# EAGLE library part PINHD-2X5 (library SquantorConnectors)
PIN HEADER
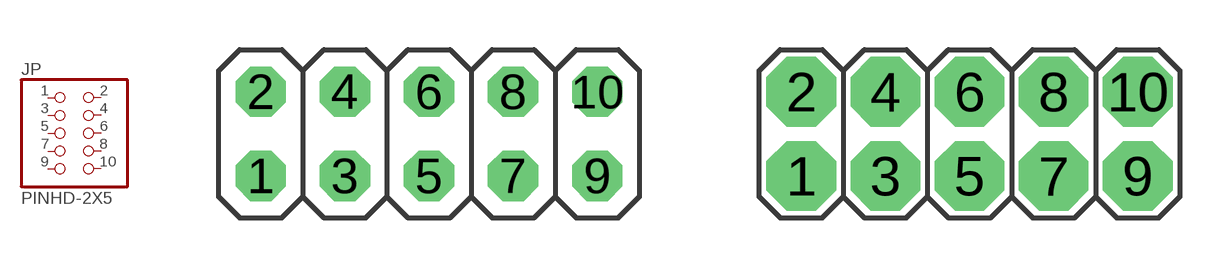
[diagram p27: symbol with the pads of 2X05; footprints 2X05, 2X05HOLE14]

Designator prefix JP

## PINHD-2X5TH_NORMAL  [2X05]
1  1  pas
2  2  pas
3  3  pas
4  4  pas
5  5  pas
6  6  pas
7  7  pas
8  8  pas
9  9  pas
10  10  pas

## PINHD-2X5TH_14MM  [2X05HOLE14]
Pads as for 2X05

## PINHD-2X5SMD_SIDE  [2X05SIDE]
Pads as for 2X05

## PINHD-2X5SMD_2.54_SMD  [2X05_2.54_SMD]
Pads as for 2X05

## PINHD-2X5TH_09MM  [2X05_TH_09MM]
Pads as for 2X05

## PINHD-2X5SMD_1.27_SMD  [2X05_1.27_SMD]
Pads as for 2X05

## Footprint 2X05 (pad centres in mm)
PIN HEADER
drill 1.016 octagon: 1 -5.08,-1.27; 2 -5.08,1.27; 3 -2.54,-1.27; 4 -2.54,1.27; 5 0,-1.27; 6 0,1.27; 7 2.54,-1.27; 8 2.54,1.27; 9 5.08,-1.27; 10 5.08,1.27

## Footprint 2X05HOLE14 (pad centres in mm)
Trough hole pinheader with 1.4mm holes: This is done to accomodate larger via tubes from bungard
drill 1.4 octagon: 1 -5.08,-1.27; 2 -5.08,1.27; 3 -2.54,-1.27; 4 -2.54,1.27; 5 0,-1.27; 6 0,1.27; 7 2.54,-1.27; 8 2.54,1.27; 9 5.08,-1.27; 10 5.08,1.27

## Footprint 2X05SIDE (pad centres in mm)
2 by 5 header side mount
smd 1.27 x 3.81: 1 -5.08,0; 3 -2.54,0; 5 0,0; 7 2.54,0; 9 5.08,0
smd 1.27 x 3.81 bottom: 2 -5.08,0; 4 -2.54,0; 6 0,0; 8 2.54,0; 10 5.08,0

## Footprint 2X05_2.54_SMD (pad centres in mm)
SMD header footprint
smd 1.27 x 3.81: 1 -5.08,-2.54; 2 -5.08,2.54; 3 -2.54,-2.54; 4 -2.54,2.54; 5 0,-2.54; 6 0,2.54; 7 2.54,-2.54; 8 2.54,2.54; 9 5.08,-2.54; 10 5.08,2.54

## Footprint 2X05_TH_09MM (pad centres in mm)
drill 0.9 pad 1.676 octagon: 1 -5.08,-1.27; 2 -5.08,1.27; 3 -2.54,-1.27; 4 -2.54,1.27; 5 0,-1.27; 6 0,1.27; 7 2.54,-1.27; 8 2.54,1.27; 9 5.08,-1.27; 10 5.08,1.27

## Footprint 2X05_1.27_SMD (pad centres in mm)
smd 0.76 x 2.4: 1 -2.54,-1.905; 2 -2.54,1.905; 3 -1.27,-1.905; 4 -1.27,1.905; 5 0,-1.905; 6 0,1.905; 7 1.27,-1.905; 8 1.27,1.905; 9 2.54,-1.905; 10 2.54,1.905